# Altium footprint library Capacitor.PcbLib: 10 footprints
Each footprint in its own frame and in the unit in brackets; x right, y up, seen from the top. Pads: shape width x height; smd on the part's side, far side on the other; paste and mask are expansions set on the pad; w line width, h text height; cw(c..) or ccw(c..) is an arc to the next point about the centre after c.
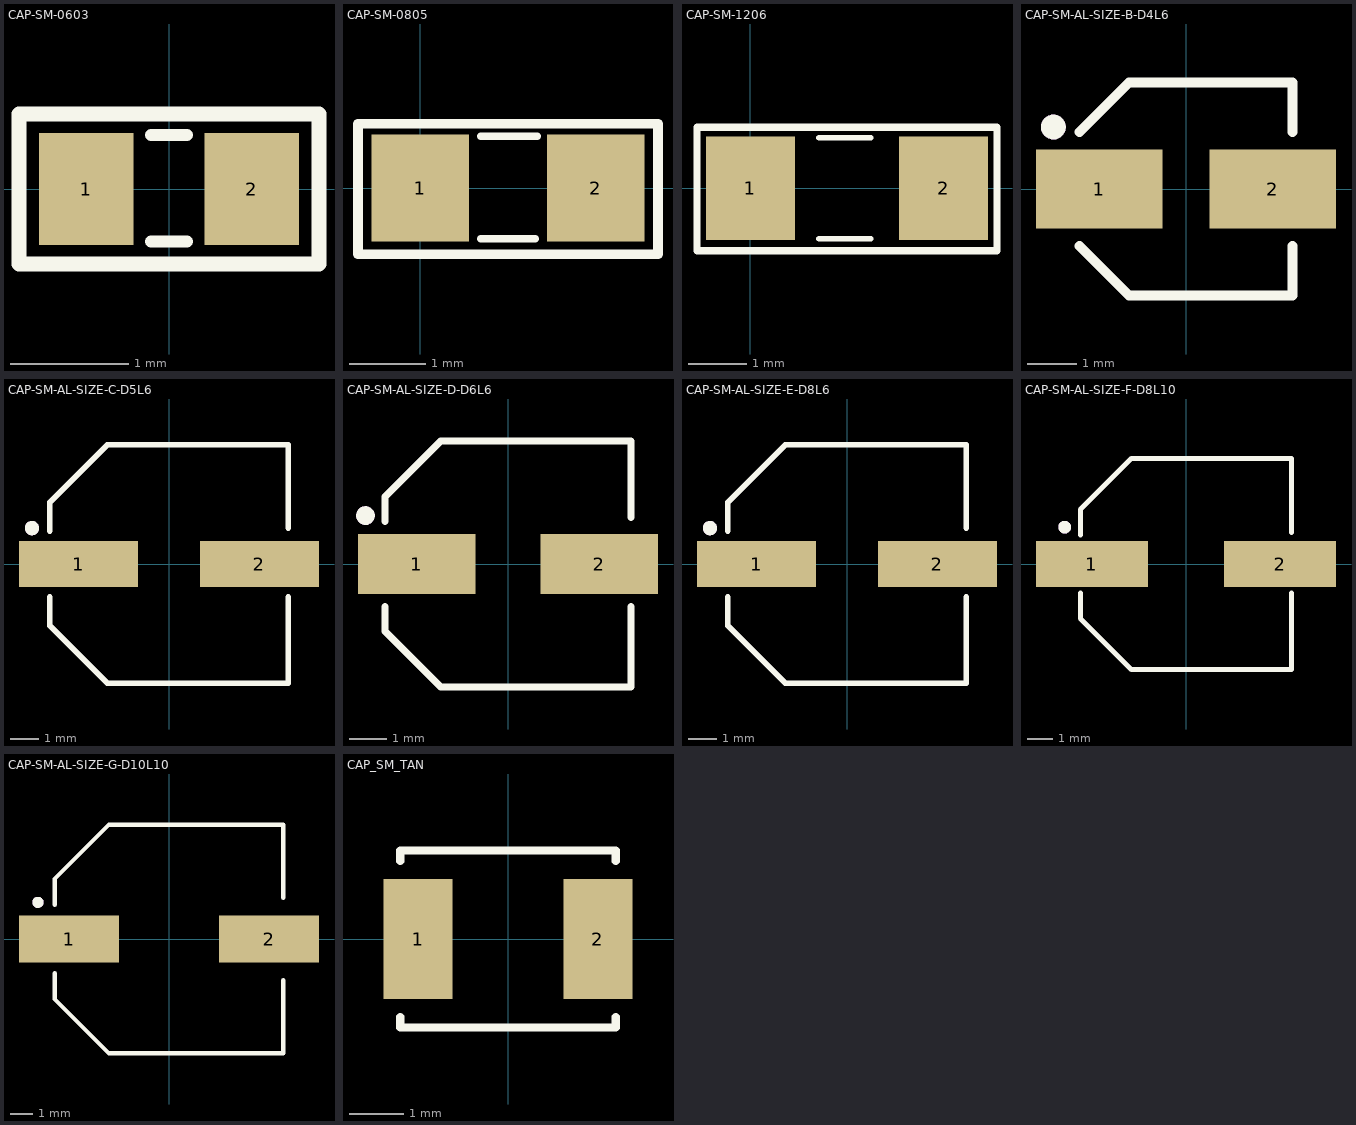
[diagram p0: the footprints below, top view; thin cyan lines are the x and y axes]

## CAP-SM-0603 [mm] "SMD Ceramic Capacitor Size 0603"
height 0.6
pads (2):
  rect 0.8x0.95 smd: 1(-0.7,0) 2(0.7,0)
Top Overlay:
  lines w0.102: -0.152,-0.443 0.152,-0.443 ; -0.152,0.457 0.152,0.457
  lines w0.127: -1.27,-0.635 -1.27,0.635 1.27,0.635 1.27,-0.635 -1.27,-0.635
3D body "CAPC-0603-T0.9-BN.stp": height 0.9, standoff 0, extent -0.85,-0.45 0.85,0.45

## CAP-SM-0805 [mil]
pads (2):
  rect 50x55 smd: 1(0,0) 2(90,0)
Top Overlay:
  lines w4: 31,-26 59,-26 ; 31,26.58 60,26.58
  lines w5: -32,-34 122,-34 122,33 -32,33 -32,-34
3D body "CAPC-0805-T0.75-BN.stp": height 29.53, standoff 0, extent 3.67,-26.57 86.35,26.59

## CAP-SM-1206 [mil]
pads (2):
  rect 60x70 smd: 1(0,0) 2(130,0)
Top Overlay:
  lines w4: 46,-34 81,-34 ; 46,34 81,34
  lines w5: -36,-42 -36,41 166,41 166,-42 -36,-42
3D body "CAPC-1206-T1.0-BN.stp": height 39.37, standoff 0, extent 0.06,-34.44 131.95,34.45

## CAP-SM-AL-SIZE-B-D4L6 [mm] "WH4.3"
height 5.4
pads (2):
  rect 2.55x1.6 smd: 1(-1.75,0) 2(1.75,0)
Top Overlay:
  circle w0.25: c-2.675,1.25 r0.125
  lines w0.2: -2.15,-1.15 -1.15,-2.15 2.15,-2.15 2.15,-1.15 ; -2.15,1.15 -1.15,2.15 2.15,2.15 2.15,1.15
Mechanical 14:
  circle w0.25: c-2.675,1.25 r0.125
3D body "CAPAE430X540N.stp": height 5.7, standoff 0, extent -2.75,-2.25 2.75,2.25

## CAP-SM-AL-SIZE-C-D5L6 [mm] "WH5.3"
height 6.2
pads (2):
  rect 4.15x1.6 smd: 1(-3.15,0) 2(3.15,0)
Top Overlay:
  circle w0.25: c-4.775,1.25 r0.125
  lines w0.2: -4.15,-1.15 -4.15,-2.15 -2.15,-4.15 4.15,-4.15 4.15,-1.15 ; -4.15,1.15 -4.15,2.15 -2.15,4.15 4.15,4.15 4.15,1.25
Mechanical 14:
  circle w0.25: c-4.774,1.251 r0.125
3D body "CAPAE830X620N.stp": height 6.2, standoff 0, extent -4.75,-4.25 4.75,4.25

## CAP-SM-AL-SIZE-D-D6L6 [mm] "WH6.6"
height 5.4
pads (2):
  rect 3.15x1.6 smd: 1(-2.45,0) 2(2.45,0)
Top Overlay:
  circle w0.25: c-3.825,1.3 r0.125
  lines w0.2: -3.3,-1.15 -3.3,-1.8 -1.8,-3.3 3.3,-3.3 3.3,-1.15 ; -3.3,1.15 -3.3,1.8 -1.8,3.3 3.3,3.3 3.3,1.25
Mechanical 14:
  circle w0.25: c-3.825,1.3 r0.125
3D body "CAPAE660X540N.stp": height 5.7, standoff 0, extent -3.9,-3.4 3.9,3.4

## CAP-SM-AL-SIZE-E-D8L6 [mm] "WH8.3"
height 6.2
pads (2):
  rect 4.15x1.6 smd: 1(-3.15,0) 2(3.15,0)
Top Overlay:
  circle w0.25: c-4.775,1.25 r0.125
  lines w0.2: -4.15,-1.15 -4.15,-2.15 -2.15,-4.15 4.15,-4.15 4.15,-1.15 ; -4.15,1.15 -4.15,2.15 -2.15,4.15 4.15,4.15 4.15,1.25
Mechanical 14:
  circle w0.25: c-4.774,1.251 r0.125
3D body "CAPAE830X620N.stp": height 6.2, standoff 0, extent -4.75,-4.25 4.75,4.25

## CAP-SM-AL-SIZE-F-D8L10 [mm] "WH8.3"
height 10.2
pads (2):
  rect 4.4x1.8 smd: 1(-3.7,0) 2(3.7,0)
Top Overlay:
  circle w0.25: c-4.775,1.45 r0.125
  lines w0.2: -4.15,-1.15 -4.15,-2.15 -2.15,-4.15 4.15,-4.15 4.15,-1.15 ; -4.15,1.15 -4.15,2.15 -2.15,4.15 4.15,4.15 4.15,1.25
Mechanical 14:
  circle w0.25: c-4.775,1.45 r0.125
3D body "CAPAE830X1020N.stp": height 10.2, standoff 0, extent -4.75,-4.25 5.25,4.25

## CAP-SM-AL-SIZE-G-D10L10 [mm] "WH10.3"
height 10.2
pads (2):
  rect 4.5x2.1 smd: 1(-4.5,0) 2(4.5,0)
Top Overlay:
  circle w0.25: c-5.9,1.65 r0.125
  lines w0.2: -5.15,-1.55 -5.15,-2.35 -5.15,-2.7 -2.7,-5.15 5.15,-5.15 5.15,-1.85 ; -5.15,1.55 -5.15,2.7 -2.7,5.15 5.15,5.15 5.15,1.85
Mechanical 14:
  circle w0.25: c-5.899,1.651 r0.125
3D body "CAPAE1030X1020N.stp": height 10.2, standoff 0, extent -6,-5.25 6,5.25

## CAP_SM_TAN [mil]
pads (2):
  rect 49.98x87 smd: 1(-65,0) 2(65,0)
Top Overlay:
  lines w6: -78,-56.45 -78,-64 78,-64 78,-56.45 ; -78,56.45 -78,64 78,64 78,56.45
3D body: height 10, standoff 0, extent 0,0 10,10
3D body "TAJB_AVX.step": height 85, standoff 0, extent -72.99,-60 72.99,58.03